# EAGLE library part AS3933 (library Souers)
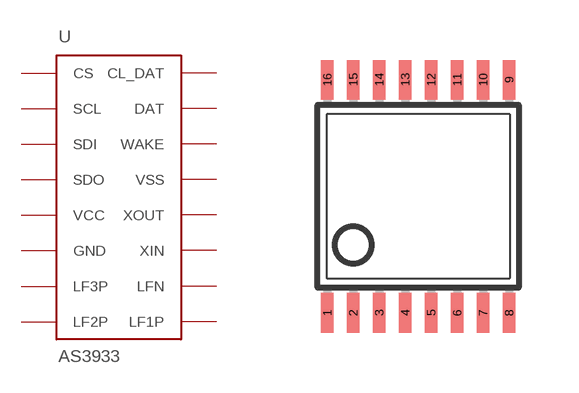
[diagram p1: symbol with the pads of TSSOP16; footprint TSSOP16]

Designator prefix -

## AS3933  [TSSOP16]
1  CS
2  SCL
3  SDI
4  SDO
5  VCC
6  GND
7  LF3P
8  LF2P
9  LF1P
10  LFN
11  XIN
12  XOUT
13  VSS
14  WAKE
15  DAT
16  CL_DAT

## Footprint TSSOP16 (pad centres in mm)
Thin Shrink Small Outline Plastic 16 MAX3223-MAX3243.pdf
smd 0.305 x 0.991: 1 -2.275,-2.918; 2 -1.625,-2.918; 3 -0.975,-2.918; 4 -0.325,-2.918; 5 0.325,-2.918; 6 0.975,-2.918; 7 1.625,-2.918; 8 2.275,-2.918; 9 2.275,2.918; 10 1.625,2.918; 11 0.975,2.918; 12 0.325,2.918; 13 -0.325,2.918; 14 -0.975,2.918; 15 -1.625,2.918; 16 -2.275,2.918